# Altium integrated library Infineon_Power_MOSFET.IntLib: 1448 symbols (part 46 of 47)
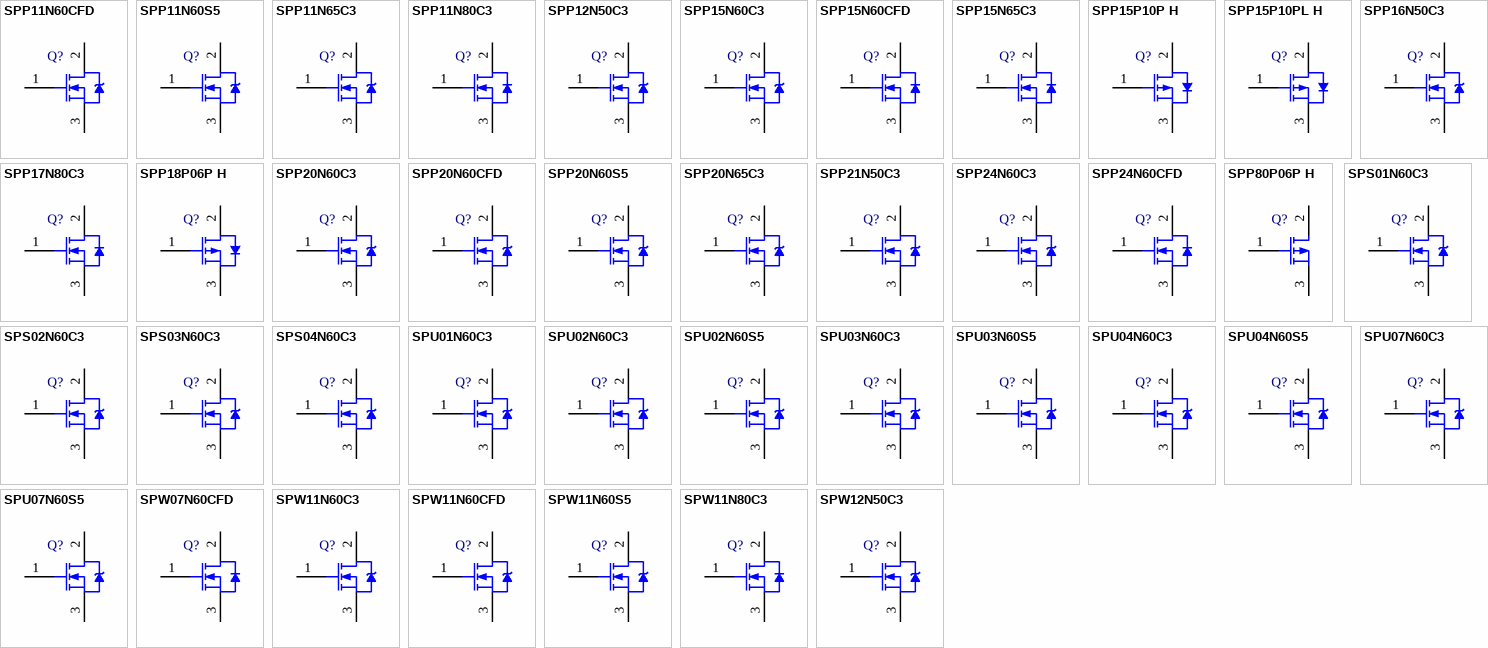
[diagram p82: symbols SPP11N60CFD to SPW12N50C3]

## SPP20N60S5
designator Q?
N-Channel CoolMOS Power-Transistor, 600 V VDS, 20 A ID, -55 to 150 degC, PG-TO220-3-1, Tube, Green; Manufacturer: Infineon; PartNumber: SPP20N60S5; Green: TRUE; ID (max): 20 A; IDpuls (max): 40 A; Polarity: N; Ptot (max): 208 W; QG: 79 nC; RDS (on) (max): 190 mOhm; Rth: 0.6 K/W; RthJA (max): 62 K/W; VDS (max): 600 V; VGS(th) (max): 5.5 V; VGS(th) (min): 3.5 V; DatasheetVersion: Rev. 2.8; PackageVersion: Jul-12; PackageReference: PG-TO220-3-1; PackageDescription: 3-Pin Plastic (Green) Transistor Single Outline Package, 10 x 9.25 mm Body, 2.54 mm Pitch; Supplier 1: Mouser; Supplier Part Number 1: 726-SPP20N60S5; Supplier 2: Newark; Supplier Part Number 2: 98K0731; Supplier 3: Farnell; Supplier Part Number 3: 1056552; Supplier 4: Digi-Key; Supplier Part Number 4: SPP20N60S5IN-ND; Halogen-free: TRUE; Packing: Tube; RthJC (max): 0.6 K/W; Technology: CoolMOS S5; Mounting Technology: Through Hole; ComponentLink1Description: Manufacturer URL; ComponentLink1URL: http://www.infineon.com/; ComponentLink2Description: Datasheet; ComponentLink2URL: http://www.infineon.com/dgdl/SPP20N60S5_Rev.2.8.pdf?folderId=db3a3043163797a6011638933eda014b&fileId=db3a30432313ff5e01237f9a14552fd9; ComponentLink3Description: Package Specification; ComponentLink3URL: http://www.infineon.com/dgdl/BTS117_DS_14.pdf?folderId=db3a30431400ef68011421b54e2e0564&fileId=db3a30433a747525013abff8302d549c&location=en.Products.Automotive_ICs.Smart_High-_and_Low-Side_Switches.HITFET___TEMPFET__-_Smart_Low-Side_Switches.DATASHEET.BTS117_DS_14.pdf
footprint INF-PG-TO220-3-1 (FM, 3-Leads, Body 10x4.4mm, Pitch 2.54mm)
pins: 1 GATE, 2 DRAIN, 3 SOURCE

## SPP20N65C3
designator Q?
N-Channel CoolMOS Power-Transistor, 650 V VDS, 20.7 A ID, -55 to150 degC, PG-TO220-3-1, Tube, Green; Manufacturer: Infineon; PartNumber: SPP20N65C3; Green: TRUE; ID (max): 20.7 A; IDpuls (max): 62.1 A; Mode: Enhancement; Polarity: N; Ptot (max): 208 W; QG: 87 nC; RDS (on) (max): 200 mOhm; Rth: 0.6 K/W; RthJA (max): 62 K/W; VDS (max): 650 V; VGS(th) (max): 3.9 V; VGS(th) (min): 2.1 V; DatasheetVersion: Rev. 3.1; PackageVersion: Jul-12; PackageReference: PG-TO220-3-1; PackageDescription: 3-Pin Plastic (Green) Transistor Single Outline Package, 10 x 9.25 mm Body, 2.54 mm Pitch; Supplier 1: Mouser; Supplier Part Number 1: 726-SPP20N65C3; Supplier 2: Digi-Key; Supplier Part Number 2: SPP20N65C3IN-ND; Packing: Tube; RthJC (max): 0.6 K/W; Technology: CoolMOS C3; Mounting Technology: Through Hole; ComponentLink1Description: Manufacturer URL; ComponentLink1URL: http://www.infineon.com/; ComponentLink2Description: Datasheet; ComponentLink2URL: http://www.infineon.com/dgdl/SPP_A_I20N65C3_Rev.3.1.pdf?folderId=db3a304412b407950112b408e8c90004&fileId=db3a304412b407950112b42ea4314a07; ComponentLink3Description: Package Specification; ComponentLink3URL: http://www.infineon.com/dgdl/BTS117_DS_14.pdf?folderId=db3a30431400ef68011421b54e2e0564&fileId=db3a30433a747525013abff8302d549c&location=en.Products.Automotive_ICs.Smart_High-_and_Low-Side_Switches.HITFET___TEMPFET__-_Smart_Low-Side_Switches.DATASHEET.BTS117_DS_14.pdf
footprint INF-PG-TO220-3-1 (FM, 3-Leads, Body 10x4.4mm, Pitch 2.54mm)
pins: 1 GATE, 2 DRAIN, 3 SOURCE

## SPP21N50C3
designator Q?
N-Channel CoolMOS Power-Transistor, 500 V VDS, 21 A ID, -55 to 150 degC, PG-TO220-3-1, Tube, Green; Manufacturer: Infineon; PartNumber: SPP21N50C3; Green: TRUE; ID (max): 21 A; IDpuls (max): 63 A; Polarity: N; Ptot (max): 208 W; QG: 95 nC; RDS (on) (max): 190 mOhm; Rth: 0.6 K/W; RthJA (max): 62 K/W; VDS (max): 500 V; VGS(th) (max): 3.9 V; VGS(th) (min): 2.1 V; DatasheetVersion: Rev. 3.2; PackageVersion: Jul-12; PackageReference: PG-TO220-3-1; PackageDescription: 3-Pin Plastic (Green) Transistor Single Outline Package, 10 x 9.25 mm Body, 2.54 mm Pitch; Supplier 1: Mouser; Supplier Part Number 1: 726-SPP21N50C3; Supplier 2: Newark; Supplier Part Number 2: 98K0733; Supplier 3: Digi-Key; Supplier Part Number 3: SPP21N50C3IN-ND; Packing: Tube; RthJC (max): 0.6 K/W; Technology: CoolMOS C3; Mounting Technology: Through Hole; ComponentLink1Description: Manufacturer URL; ComponentLink1URL: http://www.infineon.com/; ComponentLink2Description: Datasheet; ComponentLink2URL: http://www.infineon.com/dgdl/SPP_I_A21N50C3_Rev%5B1%5D.3.2%2Bnew.pdf?folderId=db3a304412b407950112b408e8c90004&fileId=db3a304412b407950112b42cf25f47d8; ComponentLink3Description: Package Specification; ComponentLink3URL: http://www.infineon.com/dgdl/BTS117_DS_14.pdf?folderId=db3a30431400ef68011421b54e2e0564&fileId=db3a30433a747525013abff8302d549c&location=en.Products.Automotive_ICs.Smart_High-_and_Low-Side_Switches.HITFET___TEMPFET__-_Smart_Low-Side_Switches.DATASHEET.BTS117_DS_14.pdf
footprint INF-PG-TO220-3-1 (FM, 3-Leads, Body 10x4.4mm, Pitch 2.54mm)
pins: 1 GATE, 2 DRAIN, 3 SOURCE

## SPP24N60C3
designator Q?
N-Channel CoolMOS Power-Transistor, 600 V VDS, 24.3 A ID, -55 to 150 degC, PG-TO220-3-1, Tube, Green; Manufacturer: Infineon; PartNumber: SPP24N60C3; Green: TRUE; ID (max): 24.3 A; IDpuls (max): 72.9 A; Polarity: N; Ptot (max): 240 W; QG: 104.9 nC; RDS (on) (max): 160 mOhm; Rth: 0.52 K/W; RthJA (max): 62 K/W; VDS (max): 600 V; VGS(th) (max): 3.9 V; VGS(th) (min): 2.1 V; DatasheetVersion: Rev. 2.5; PackageVersion: Jul-12; PackageReference: PG-TO220-3-1; PackageDescription: 3-Pin Plastic (Green) Transistor Single Outline Package, 10 x 9.25 mm Body, 2.54 mm Pitch; Supplier 1: Mouser; Supplier Part Number 1: 726-SPP24N60C3; Supplier 2: Digi-Key; Supplier Part Number 2: SPP24N60C3IN-ND; Packing: Tube; RthJC (max): 0.52 K/W; Technology: CoolMOS C3; Mounting Technology: Through Hole; ComponentLink1Description: Manufacturer URL; ComponentLink1URL: http://www.infineon.com/; ComponentLink2Description: Datasheet; ComponentLink2URL: http://www.infineon.com/dgdl/SPP24N60C3_Rev.2.5.pdf?folderId=db3a304412b407950112b408e8c90004&fileId=db3a304412b407950112b42e323b4975; ComponentLink3Description: Package Specification; ComponentLink3URL: http://www.infineon.com/dgdl/BTS117_DS_14.pdf?folderId=db3a30431400ef68011421b54e2e0564&fileId=db3a30433a747525013abff8302d549c&location=en.Products.Automotive_ICs.Smart_High-_and_Low-Side_Switches.HITFET___TEMPFET__-_Smart_Low-Side_Switches.DATASHEET.BTS117_DS_14.pdf
footprint INF-PG-TO220-3-1 (FM, 3-Leads, Body 10x4.4mm, Pitch 2.54mm)
pins: 1 GATE, 2 DRAIN, 3 SOURCE

## SPP24N60CFD
designator Q?
N-Channel CoolMOS Power-Transistor, 600 V VDS, 21.7 A ID, -55 to 150 degC, PG-TO220-3-1, Tube, Green; Manufacturer: Infineon; PartNumber: SPP24N60CFD; Green: TRUE; ID (max): 21.7 A; IDpuls (max): 55 A; Polarity: N; Ptot (max): 240 W; QG: 110 nC; RDS (on) (max): 185 mOhm; Rth: 0.52 K/W; RthJA (max): 62 K/W; VDS (max): 600 V; VGS(th) (max): 5 V; VGS(th) (min): 3 V; DatasheetVersion: Rev. 1.3; PackageVersion: Jul-12; PackageReference: PG-TO220-3-1; PackageDescription: 3-Pin Plastic (Green) Transistor Single Outline Package, 10 x 9.25 mm Body, 2.54 mm Pitch; Supplier 1: Mouser; Supplier Part Number 1: 726-SPP24N60CFD; Supplier 2: Digi-Key; Supplier Part Number 2: SPP24N60CFD-ND; Packing: Tube; RthJC (max): 0.52 K/W; Technology: CoolMOS CFD; Mounting Technology: Through Hole; ComponentLink1Description: Manufacturer URL; ComponentLink1URL: http://www.infineon.com/; ComponentLink2Description: Datasheet; ComponentLink2URL: http://www.infineon.com/dgdl/SPP24N60CFD_rev1.3.pdf?folderId=db3a304412b407950112b408e8c90004&fileId=db3a304412b407950112b42e904e49ef; ComponentLink3Description: Package Specification; ComponentLink3URL: http://www.infineon.com/dgdl/BTS117_DS_14.pdf?folderId=db3a30431400ef68011421b54e2e0564&fileId=db3a30433a747525013abff8302d549c&location=en.Products.Automotive_ICs.Smart_High-_and_Low-Side_Switches.HITFET___TEMPFET__-_Smart_Low-Side_Switches.DATASHEET.BTS117_DS_14.pdf
footprint INF-PG-TO220-3-1 (FM, 3-Leads, Body 10x4.4mm, Pitch 2.54mm)
pins: 1 GATE, 2 DRAIN, 3 SOURCE

## SPP80P06P H
designator Q?
P-Channel SIPMOS Power-Transistor, -60 V VDS, -80 A ID, -55 to 175 degC, PG-TO220-3-1, Tube, Green; Manufacturer: Infineon; PartNumber: SPP80P06P H; Green: TRUE; ID (max): -80 A; IDpuls (max): -320 A; Pto t (max): 340 W; QG: 115 nC; RDS (on) (max): 23 mOhm; Rth: 0.4 K/W; VDS (max): -60 V; VGS(th) (max): -4 V; VGS(th) (min): -2.1 V; DatasheetVersion: Rev. 1.5; PackageVersion: Rev. 05, 08/2007; PackageReference: PG-TO220-3-1; PackageDescription: 3-Pin Plastic (Green) Transistor Single Outline Package, 10.03 x 8.98 mm Body, 2.54 mm Pitch; Supplier 1: Mouser; Supplier Part Number 1: 726-SPP80P06PH; Supplier 2: Newark; Supplier Part Number 2: 79X1966; Supplier 3: Farnell; Supplier Part Number 3: 2432734; Supplier 4: Digi-Key; Supplier Part Number 4: SPP80P06P H-ND; Halogen-free: TRUE; Packing: Tube; RthJC (max): 0.4 K/W; Mounting Technology: Through Hole; ComponentLink1Description: Manufacturer URL; ComponentLink1URL: http://www.infineon.com/; ComponentLink2Description: Datasheet; ComponentLink2URL: http://www.infineon.com/dgdl/SPP80P06P+H_Rev1.5.pdf?folderId=db3a3043156fd5730115d6a107c41454&fileId=db3a304325afd6e001264bbdf4a70ca7; ComponentLink3Description: Package Specification; ComponentLink3URL: http://www.infineon.com/dgdl/IPP028N08N3_Rev1%5B1%5D.0.pdf?folderId=db3a304313b8b5a60113cee8763b02d7&fileId=db3a30432313ff5e0123a3c08e7326b5
footprint INF-PG-TO220-3-1_A_V (FM, 3-Leads, Body 10.03x8.98mm, Pitch 2.54mm)
pins: 1 G, 2 D, 3 S

## SPS01N60C3
designator Q?
N-Channel CoolMOS Power-Transistor, 600 V VDS, 0.8 A ID, -55 to 150 degC, PG-TO251-3-11, Tube, Green; Manufacturer: Infineon; PartNumber: SPS01N60C3; Green: TRUE; ID (max): 0.8 A; IDpuls (max): 1.6 A; Polarity: N; Ptot (max): 11 W; QG: 3.9 nC; RDS (on) (max): 6,000 mOhm; Rth: 11 K/W; RthJA (max): 75 K/W; VDS (max): 600 V; VGS(th) (max): 3.9 V; VGS(th) (min): 2.1 V; DatasheetVersion: Rev. 2.1; PackageVersion: Rev. 03, 01/2008; PackageReference: PG-TO251-3-11; PackageDescription: 3-Pin Plastic (Green) Transistor Single Outline Package, 6.54 x 6.1 mm Body, 2.29 mm Pitch; Supplier 1: Mouser; Supplier Part Number 1: 726-SPS01N60C3; Supplier 2: Newark; Supplier Part Number 2: 33P8223; Supplier 3: Farnell; Supplier Part Number 3: 1664126; Supplier 4: Digi-Key; Supplier Part Number 4: SPS01N60C3-ND; Packing: Tube; RthJC (max): 11 K/W; Technology: CoolMOS C3; Mounting Technology: Through Hole; ComponentLink1Description: Manufacturer URL; ComponentLink1URL: http://www.infineon.com/; ComponentLink2Description: Datasheet; ComponentLink2URL: http://www.infineon.com/dgdl/SPS01N60C3_Rev.2.1.pdf?folderId=db3a304412b407950112b408e8c90004&fileId=db3a304412b407950112b42e0a854941; ComponentLink3Description: Package Specification; ComponentLink3URL: http://www.infineon.com/dgdl/IPS50R520CP_rev2.1.pdf?folderId=db3a3043163797a6011637d4bae7003b&fileId=db3a30432b16d655012b1a87faf22d80
footprint INF-PG-TO251-3-11 (FM, 3-Leads, Body 6.54x2.285mm, Pitch 2.29mm)
pins: 1 GATE, 2 DRAIN, 3 SOURCE

## SPS02N60C3
designator Q?
N-Channel CoolMOS Power-Transistor, 600 V VDS, 1.8 A ID, -55 to 150 degC, PG-TO251-3-11, Tube, Green; Manufacturer: Infineon; PartNumber: SPS02N60C3; Green: TRUE; ID (max): 1.8 A; IDpuls (max): 5.4 A; Polarity: N; Ptot (max): 25 W; QG: 9.5 nC; RDS (on) (max): 3,000 mOhm; Rth: 5 K/W; RthJA (max): 75 K/W; VDS (max): 600 V; VGS(th) (max): 3.9 V; VGS(th) (min): 2.1 V; DatasheetVersion: Rev. 2.2; PackageVersion: Rev. 03, 01/2008; PackageReference: PG-TO251-3-11; PackageDescription: 3-Pin Plastic (Green) Transistor Single Outline Package, 6.54 x 6.1 mm Body, 2.29 mm Pitch; Supplier 1: Mouser; Supplier Part Number 1: 726-SPS02N60C3; Supplier 2: Newark; Supplier Part Number 2: 33P8224; Supplier 3: Farnell; Supplier Part Number 3: 1664127; Supplier 4: Digi-Key; Supplier Part Number 4: SPS02N60C3-ND; Packing: Tube; RthJC (max): 5 K/W; Technology: CoolMOS C3; Mounting Technology: Through Hole; ComponentLink1Description: Manufacturer URL; ComponentLink1URL: http://www.infineon.com/; ComponentLink2Description: Datasheet; ComponentLink2URL: http://www.infineon.com/dgdl/SPS02N60C3_Rev+2+2.pdf?folderId=db3a304412b407950112b408e8c90004&fileId=db3a304412b407950112b42e625749b7; ComponentLink3Description: Package Specification; ComponentLink3URL: http://www.infineon.com/dgdl/IPS50R520CP_rev2.1.pdf?folderId=db3a3043163797a6011637d4bae7003b&fileId=db3a30432b16d655012b1a87faf22d80
footprint INF-PG-TO251-3-11 (FM, 3-Leads, Body 6.54x2.285mm, Pitch 2.29mm)
pins: 1 GATE, 2 DRAIN, 3 SOURCE

## SPS03N60C3
designator Q?
N-Channel CoolMOS Power-Transistor, 600 V VDS, 3.2 A ID, -55 to 150 degC, PG-TO251-3-11, Tube, Green; Manufacturer: Infineon; PartNumber: SPS03N60C3; Green: TRUE; ID (max): 3.2 A; IDpuls (max): 9.6 A; Polarity: N; Ptot (max): 38 W; QG: 13 nC; RDS (on) (max): 1,400 mOhm; Rth: 3.3 K/W; RthJA (max): 75 K/W; VDS (max): 600 V; VGS(th) (max): 3.9 V; VGS(th) (min): 2.1 V; DatasheetVersion: Rev. 2.1; PackageVersion: Rev. 03, 01/2008; PackageReference: PG-TO251-3-11; PackageDescription: 3-Pin Plastic (Green) Transistor Single Outline Package, 6.54 x 6.1 mm Body, 2.29 mm Pitch; Supplier 1: Mouser; Supplier Part Number 1: 726-SPS03N60C3; Supplier 2: Farnell; Supplier Part Number 2: 1664129; Supplier 3: Digi-Key; Supplier Part Number 3: SPS03N60C3-ND; Packing: Tube; RthJC (max): 3.3 K/W; Technology: CoolMOS C3; Mounting Technology: Through Hole; ComponentLink1Description: Manufacturer URL; ComponentLink1URL: http://www.infineon.com/; ComponentLink2Description: Datasheet; ComponentLink2URL: http://www.infineon.com/dgdl/SPS03N60C3_Rev+2+1.pdf?folderId=db3a304412b407950112b408e8c90004&fileId=db3a304412b407950112b42e661f49bb; ComponentLink3Description: Package Specification; ComponentLink3URL: http://www.infineon.com/dgdl/IPS50R520CP_rev2.1.pdf?folderId=db3a3043163797a6011637d4bae7003b&fileId=db3a30432b16d655012b1a87faf22d80
footprint INF-PG-TO251-3-11 (FM, 3-Leads, Body 6.54x2.285mm, Pitch 2.29mm)
pins: 1 GATE, 2 DRAIN, 3 SOURCE

## SPS04N60C3
designator Q?
N-Channel CoolMOS Power-Transistor, 600 V VDS, 4.5 A ID, -55 to 150 degC, PG-TO251-3-11, Tube, Green; Manufacturer: Infineon; PartNumber: SPS04N60C3; Green: TRUE; ID (max): 4.5 A; IDpuls (max): 13.5 A; Polarity: N; Ptot (max): 50 W; QG: 19 nC; RDS (on) (max): 950 mOhm; Rth: 2.5 K/W; RthJA (max): 75 K/W; VDS (max): 600 V; VGS(th) (max): 3.9 V; VGS(th) (min): 2.1 V; DatasheetVersion: Rev. 2.1; PackageVersion: Rev. 03, 01/2008; PackageReference: PG-TO251-3-11; PackageDescription: 3-Pin Plastic (Green) Transistor Single Outline Package, 6.54 x 6.1 mm Body, 2.29 mm Pitch; Supplier 1: Mouser; Supplier Part Number 1: 726-SPS04N60C3; Supplier 2: Newark; Supplier Part Number 2: 33P8226; Supplier 3: Farnell; Supplier Part Number 3: 1664131; Supplier 4: Digi-Key; Supplier Part Number 4: SPS04N60C3-ND; Packing: Tube; RthJC (max): 2.5 K/W; Technology: CoolMOS C3; Mounting Technology: Through Hole; ComponentLink1Description: Manufacturer URL; ComponentLink1URL: http://www.infineon.com/; ComponentLink2Description: Datasheet; ComponentLink2URL: http://www.infineon.com/dgdl/SPS03N60C3_Rev+2+1.pdf?folderId=db3a304412b407950112b408e8c90004&fileId=db3a304412b407950112b42e661f49bb; ComponentLink3Description: Package Specification; ComponentLink3URL: http://www.infineon.com/dgdl/IPS50R520CP_rev2.1.pdf?folderId=db3a3043163797a6011637d4bae7003b&fileId=db3a30432b16d655012b1a87faf22d80
footprint INF-PG-TO251-3-11 (FM, 3-Leads, Body 6.54x2.285mm, Pitch 2.29mm)
pins: 1 GATE, 2 DRAIN, 3 SOURCE

## SPU01N60C3
designator Q?
N-Channel CoolMOS Power-Transistor, 600 V VDS, 0.8 A ID, -55 to 150 degC, PG-TO-251-3-21, Tube, Green; Manufacturer: Infineon; PartNumber: SPU01N60C3; Green: TRUE; ID (max): 0.8 A; IDpuls (max): 1.6 A; Polarity: N; Ptot (max): 11 W; QG: 3.9 nC; RDS (on) (max): 6,000 mOhm; Rth: 11 K/W; RthJA (max): 75 K/W; VDS (max): 600 V; VGS(th) (max): 3.9 V; VGS(th) (min): 2.1 V; DatasheetVersion: Rev. 2.5; PackageVersion: Rev. 03, 10/2007; PackageReference: PG-TO-251-3-21; PackageDescription: 3-Pin Plastic (Green) Transistor Single Outline Package, 6.604 x 6.096 mm Body, 2.286 mm Pitch; Supplier 1: Mouser; Supplier Part Number 1: 726-SPU01N60C3; Supplier 2: Digi-Key; Supplier Part Number 2: SPU01N60C3IN-ND; Packing: Tube; RthJC (max): 11 K/W; Technology: CoolMOS C3; Mounting Technology: Through Hole; ComponentLink1Description: Manufacturer URL; ComponentLink1URL: http://www.infineon.com/; ComponentLink2Description: Datasheet; ComponentLink2URL: http://www.infineon.com/dgdl/SPD_U01N60C3_Rev.2.5.pdf?folderId=db3a304412b407950112b408e8c90004&fileId=db3a304412b407950112b42e18974951; ComponentLink3Description: Package Specification; ComponentLink3URL: http://www.infineon.com/dgdl/SPD_U01N60C3_Rev.2.5.pdf?folderId=db3a304412b407950112b408e8c90004&fileId=db3a304412b407950112b42e18974951
footprint INF-PG-TO-251-3-21_A (FM, 3-Leads, Body 6.54x2.285mm, Pitch 2.29mm)
pins: 1 GATE, 2 DRAIN, 3 SOURCE

## SPU02N60C3
designator Q?
N-Channel CoolMOS Power-Transistor, 600 V VDS, 1.8 A ID, -55 to 150 degC, PG-TO-251-3-21, Tube, Green; Manufacturer: Infineon; PartNumber: SPU02N60C3; Green: TRUE; ID (max): 1.8 A; IDpuls (max): 5.4 A; Polarity: N; Ptot (max): 25 W; QG: 9.5 nC; RDS (on) (max): 3,000 mOhm; Rth: 5 K/W; RthJA (max): 75 K/W; VDS (max): 600 V; VGS(th) (max): 3.9 V; VGS(th) (min): 2.1 V; DatasheetVersion: Rev. 2.5; PackageVersion: Rev. 03, 10/2007; PackageReference: PG-TO-251-3-21; PackageDescription: 3-Pin Plastic (Green) Transistor Single Outline Package, 6.604 x 6.096 mm Body, 2.286 mm Pitch; Supplier 1: Mouser; Supplier Part Number 1: 726-SPU02N60C3; Supplier 2: Farnell; Supplier Part Number 2: 1664132; Supplier 3: Digi-Key; Supplier Part Number 3: SPU02N60C3-ND; Packing: Tube; RthJC (max): 5 K/W; Technology: CoolMOS C3; Mounting Technology: Through Hole; ComponentLink1Description: Manufacturer URL; ComponentLink1URL: http://www.infineon.com/; ComponentLink2Description: Datasheet; ComponentLink2URL: http://www.infineon.com/dgdl/SPD_U02N60C3_Rev.2.5.pdf?folderId=db3a304412b407950112b408e8c90004&fileId=db3a304412b407950112b42d79214883; ComponentLink3Description: Package Specification; ComponentLink3URL: http://www.infineon.com/dgdl/SPD_U01N60C3_Rev.2.5.pdf?folderId=db3a304412b407950112b408e8c90004&fileId=db3a304412b407950112b42e18974951
footprint INF-PG-TO-251-3-21_A (FM, 3-Leads, Body 6.54x2.285mm, Pitch 2.29mm)
pins: 1 GATE, 2 DRAIN, 3 SOURCE

## SPU02N60S5
designator Q?
N-Channel CoolMOS Power-Transistor, 600 V VDS, 1.8 A ID, -55 to 150 degC, PG-TO-251-3-21, Tube, Green; Manufacturer: Infineon; PartNumber: SPU02N60S5; Green: TRUE; ID (max): 1.8 A; IDpuls (max): 3.2 A; Polarity: N; Ptot (max): 25 W; QG: 7.3 nC; RDS (on) (max): 3,000 mOhm; Rth: 5 K/W; RthJA (max): 75 K/W; VDS (max): 600 V; VGS(th) (max): 5.5 V; VGS(th) (min): 3.5 V; DatasheetVersion: Rev. 2.5; PackageVersion: Rev. 03, 10/2007; PackageReference: PG-TO-251-3-21; PackageDescription: 3-Pin Plastic (Green) Transistor Single Outline Package, 6.604 x 6.096 mm Body, 2.286 mm Pitch; Supplier 1: Mouser; Supplier Part Number 1: 726-SPU02N60S5; Supplier 2: Digi-Key; Supplier Part Number 2: SPU02N60S5IN-ND; Packing: Tube; RthJC (max): 5 K/W; Technology: CoolMOS S5; Mounting Technology: Through Hole; ComponentLink1Description: Manufacturer URL; ComponentLink1URL: http://www.infineon.com/; ComponentLink2Description: Datasheet; ComponentLink2URL: http://www.infineon.com/dgdl/SPD_U02N60S5_Rev.2.5.pdf?folderId=db3a304412b407950112b408e8c90004&fileId=db3a304412b407950112b42c91374727; ComponentLink3Description: Package Specification; ComponentLink3URL: http://www.infineon.com/dgdl/SPD_U01N60C3_Rev.2.5.pdf?folderId=db3a304412b407950112b408e8c90004&fileId=db3a304412b407950112b42e18974951
footprint INF-PG-TO-251-3-21_A (FM, 3-Leads, Body 6.54x2.285mm, Pitch 2.29mm)
pins: 1 GATE, 2 DRAIN, 3 SOURCE

## SPU03N60C3
designator Q?
N-Channel CoolMOS Power-Transistor, 600 V VDS, 3.2 A ID, -55 to 150 degC, PG-TO-251-3-21, Tube, Green; Manufacturer: Infineon; PartNumber: SPU03N60C3; Green: TRUE; ID (max): 3.2 A; IDpuls (max): 9.6 A; Polarity: N; Ptot (max): 38 W; QG: 13 nC; RDS (on) (max): 1,400 mOhm; Rth: 3.3 K/W; RthJA (max): 75 K/W; VDS (max): 600 V; VGS(th) (max): 3.9 V; VGS(th) (min): 2.1 V; DatasheetVersion: Rev. 2.5; PackageVersion: Rev. 03, 10/2007; PackageReference: PG-TO-251-3-21; PackageDescription: 3-Pin Plastic (Green) Transistor Single Outline Package, 6.604 x 6.096 mm Body, 2.286 mm Pitch; Supplier 1: Mouser; Supplier Part Number 1: 726-SPU03N60C3; Supplier 2: Digi-Key; Supplier Part Number 2: SPU03N60C3-ND; Packing: Tube; RthJC (max): 3.3 K/W; Technology: CoolMOS C3; Mounting Technology: Through Hole; ComponentLink1Description: Manufacturer URL; ComponentLink1URL: http://www.infineon.com/; ComponentLink2Description: Datasheet; ComponentLink2URL: http://www.infineon.com/dgdl/SPD_U03N60C3_Rev.2.5.pdf?folderId=db3a3043156fd5730115c736bcc70ff2&fileId=db3a3043191a246301192907f3b27f4b; ComponentLink3Description: Package Specification; ComponentLink3URL: http://www.infineon.com/dgdl/SPD_U01N60C3_Rev.2.5.pdf?folderId=db3a304412b407950112b408e8c90004&fileId=db3a304412b407950112b42e18974951
footprint INF-PG-TO-251-3-21_A (FM, 3-Leads, Body 6.54x2.285mm, Pitch 2.29mm)
pins: 1 GATE, 2 DRAIN, 3 SOURCE

## SPU03N60S5
designator Q?
N-Channel CoolMOS Power-Transistor, 600 V VDS, 3.2 A ID, -55 to 150 degC, PG-TO-251-3-21, Tube, Green; Manufacturer: Infineon; PartNumber: SPU03N60S5; Green: TRUE; ID (max): 3.2 A; IDpuls (max): 5.7 A; Polarity: N; Ptot (max): 38 W; QG: 12.4 nC; RDS (on) (max): 1,400 mOhm; Rth: 3.3 K/W; RthJA (max): 75 K/W; VDS (max): 600 V; VGS(th) (max): 5.5 V; VGS(th) (min): 3.5 V; DatasheetVersion: Rev. 2.5; PackageVersion: Rev. 03, 10/2007; PackageReference: PG-TO-251-3-21; PackageDescription: 3-Pin Plastic (Green) Transistor Single Outline Package, 6.604 x 6.096 mm Body, 2.286 mm Pitch; Supplier 1: Mouser; Supplier Part Number 1: 726-SPU03N60S5; Supplier 2: Digi-Key; Supplier Part Number 2: SPU03N60S5IN-ND; Packing: Tube; RthJC (max): 3.3 K/W; Technology: CoolMOS S5; Mounting Technology: Through Hole; ComponentLink1Description: Manufacturer URL; ComponentLink1URL: http://www.infineon.com/; ComponentLink2Description: Datasheet; ComponentLink2URL: http://www.infineon.com/dgdl/SPD_U03N60S5_Rev.2.5.pdf?folderId=db3a304412b407950112b408e8c90004&fileId=db3a304412b407950112b42c8ab0471f; ComponentLink3Description: Package Specification; ComponentLink3URL: http://www.infineon.com/dgdl/SPD_U01N60C3_Rev.2.5.pdf?folderId=db3a304412b407950112b408e8c90004&fileId=db3a304412b407950112b42e18974951
footprint INF-PG-TO-251-3-21_A (FM, 3-Leads, Body 6.54x2.285mm, Pitch 2.29mm)
pins: 1 GATE, 2 DRAIN, 3 SOURCE

## SPU04N60C3
designator Q?
N-Channel CoolMOS Power-Transistor, 600 V VDS, 4.5 A ID, -55 to 150 degC, PG-TO-251-3-21, Tube, Green; Manufacturer: Infineon; PartNumber: SPU04N60C3; Green: TRUE; ID (max): 4.5 A; IDpuls (max): 13.5 A; Polarity: N; Ptot (max): 50 W; QG: 19 nC; RDS (on) (max): 950 mOhm; Rth: 2.5 K/W; RthJA (max): 75 K/W; VDS (max): 600 V; VGS(th) (max): 3.9 V; VGS(th) (min): 2.1 V; DatasheetVersion: Rev. 2.5; PackageVersion: Rev. 03, 10/2007; PackageReference: PG-TO-251-3-21; PackageDescription: 3-Pin Plastic (Green) Transistor Single Outline Package, 6.604 x 6.096 mm Body, 2.286 mm Pitch; Supplier 1: Mouser; Supplier Part Number 1: 726-SPU04N60C3; Supplier 2: Digi-Key; Supplier Part Number 2: SPU04N60C3IN-ND; Packing: Tube; RthJC (max): 2.5 K/W; Technology: CoolMOS C3; Mounting Technology: Through Hole; ComponentLink1Description: Manufacturer URL; ComponentLink1URL: http://www.infineon.com/; ComponentLink2Description: Datasheet; ComponentLink2URL: http://www.infineon.com/dgdl/SPD_U04N60C3_Rev+2.5._pdf.pdf?folderId=db3a3043156fd5730115c736bcc70ff2&fileId=db3a3043191a246301192d0ba57a2a33; ComponentLink3Description: Package Specification; ComponentLink3URL: http://www.infineon.com/dgdl/SPD_U01N60C3_Rev.2.5.pdf?folderId=db3a304412b407950112b408e8c90004&fileId=db3a304412b407950112b42e18974951
footprint INF-PG-TO-251-3-21_A (FM, 3-Leads, Body 6.54x2.285mm, Pitch 2.29mm)
pins: 1 GATE, 2 DRAIN, 3 SOURCE

## SPU04N60S5
designator Q?
Cool MOS Power Transistor, 600 V VDS, 4.5 A ID, PG-TO-251-3-21, Tube, Green; Manufacturer: Infineon; PartNumber: SPU04N60S5; Green: TRUE; ID (max): 4.5 A; Polarity: N; RDS (on) (max): 950 mOhm; VDS (max): 600 V; DatasheetVersion: Rev. 2.5; PackageVersion: Rev. 03, 10/2007; PackageReference: PG-TO-251-3-21; PackageDescription: 3-Pin Plastic (Green) Transistor Single Outline Package, 6.604 x 6.096 mm Body, 2.286 mm Pitch; Supplier 1: Digi-Key; Supplier Part Number 1: SPU04N60S5IN-ND; Halogen-free: FALSE; Packing: Tube; Mounting Technology: Through Hole; ComponentLink1Description: Manufacturer URL; ComponentLink1URL: http://www.infineon.com/; ComponentLink2Description: Datasheet; ComponentLink2URL: http://www.infineon.com/dgdl/SPD_U04N60S5_Rev.2.5.pdf?folderId=db3a304412b407950112b408e8c90004&fileId=db3a304412b407950112b42c9490472b; ComponentLink3Description: Package Specification; ComponentLink3URL: http://www.infineon.com/dgdl/SPD_U01N60C3_Rev.2.5.pdf?folderId=db3a304412b407950112b408e8c90004&fileId=db3a304412b407950112b42e18974951
footprint INF-PG-TO-251-3-21_A (FM, 3-Leads, Body 6.54x2.285mm, Pitch 2.29mm)
pins: 1 GATE, 2 DRAIN, 3 SOURCE

## SPU07N60C3
designator Q?
N-Channel CoolMOS Power-Transistor, 600 V VDS, 7.3 A ID, -55 to 150 degC, PG-TO-251-3-21, Tube, Green; Manufacturer: Infineon; PartNumber: SPU07N60C3; Green: TRUE; ID (max): 7.3 A; IDpuls (max): 21.9 A; Polarity: N; Ptot (max): 83 W; QG: 21 nC; RDS (on) (max): 600 mOhm; Rth: 1.5 K/W; RthJA (max): 75 K/W; VDS (max): 600 V; VGS(th) (max): 2.9 V; VGS(th) (min): 2.1 V; DatasheetVersion: Rev. 2.6; PackageVersion: Rev. 03, 10/2007; PackageReference: PG-TO-251-3-21; PackageDescription: 3-Pin Plastic (Green) Transistor Single Outline Package, 6.604 x 6.096 mm Body, 2.286 mm Pitch; Supplier 1: Mouser; Supplier Part Number 1: 726-SPU07N60C3; Supplier 2: Digi-Key; Supplier Part Number 2: SPU07N60C3IN-ND; Packing: Tube; RthJC (max): 1.5 K/W; Technology: CoolMOS C3; Mounting Technology: Through Hole; ComponentLink1Description: Manufacturer URL; ComponentLink1URL: http://www.infineon.com/; ComponentLink2Description: Datasheet; ComponentLink2URL: http://www.infineon.com/dgdl/SPD_U07N60C3_Rev.2.5.pdf?folderId=db3a3043156fd5730115c736bcc70ff2&fileId=db3a30431936bc4b0119377a807c3f77; ComponentLink3Description: Package Specification; ComponentLink3URL: http://www.infineon.com/dgdl/SPD_U01N60C3_Rev.2.5.pdf?folderId=db3a304412b407950112b408e8c90004&fileId=db3a304412b407950112b42e18974951
footprint INF-PG-TO-251-3-21_A (FM, 3-Leads, Body 6.54x2.285mm, Pitch 2.29mm)
pins: 1 GATE, 2 DRAIN, 3 SOURCE

## SPU07N60S5
designator Q?
N-Channel CoolMOS Power-Transistor, 600 V VDS, 7.3 A ID, -55 to 150 degC, PG-TO-251-3-21, Tube, Green; Manufacturer: Infineon; PartNumber: SPU07N60S5; Green: TRUE; ID (max): 7.3 A; IDpuls (max): 14.6 A; Polarity: N; Ptot (max): 83 W; QG: 27 nC; RDS (on) (max): 600 mOhm; Rth: 1.5 K/W; RthJA (max): 75 K/W; VDS (max): 600 V; VGS(th) (max): 5.5 V; VGS(th) (min): 3.5 V; DatasheetVersion: Rev. 2.5; PackageVersion: Rev. 03, 10/2007; PackageReference: PG-TO-251-3-21; PackageDescription: 3-Pin Plastic (Green) Transistor Single Outline Package, 6.604 x 6.096 mm Body, 2.286 mm Pitch; Supplier 1: Mouser; Supplier Part Number 1: 726-SPU07N60S5; Supplier 2: Digi-Key; Supplier Part Number 2: SPU07N60S5IN-ND; Packing: Tube; RthJC (max): 1.5 K/W; Technology: CoolMOS S5; Mounting Technology: Through Hole; ComponentLink1Description: Manufacturer URL; ComponentLink1URL: http://www.infineon.com/; ComponentLink2Description: Datasheet; ComponentLink2URL: http://www.infineon.com/dgdl/SPD_U07N60S5_Rev.2.5.pdf?folderId=db3a304412b407950112b408e8c90004&fileId=db3a304412b407950112b42c8df34723; ComponentLink3Description: Package Specification; ComponentLink3URL: http://www.infineon.com/dgdl/SPD_U01N60C3_Rev.2.5.pdf?folderId=db3a304412b407950112b408e8c90004&fileId=db3a304412b407950112b42e18974951
footprint INF-PG-TO-251-3-21_A (FM, 3-Leads, Body 6.54x2.285mm, Pitch 2.29mm)
pins: 1 GATE, 2 DRAIN, 3 SOURCE

## SPW07N60CFD
designator Q?
N-Channel CoolMOS Power-Transistor, 600 V VDS, 6.6 A ID, -55 to 150 degC, PG-TO247-3-44, Tube, Green; Manufacturer: Infineon; PartNumber: SPW07N60CFD; Green: TRUE; ID (max): 6.6 A; IDpuls (max): 17 A; Polarity: N; Ptot (max): 83 W; QG: 35 nC; RDS (on) (max): 700 mOhm; Rth: 1.5 K/W; RthJA (max): 62 K/W; VDS (max): 600 V; VGS(th) (max): 5 V; VGS(th) (min): 3 V; DatasheetVersion: Rev. 1.2; PackageVersion: Rev. 03; PackageReference: PG-TO247-3-44; PackageDescription: 3-Pin Plastic (Green) Transistor Single Outline Package, 15.94 x 20.95 mm Body, 5.44 mm Pitch; Supplier 1: Mouser; Supplier Part Number 1: 726-SPW07N60CFD; Supplier 2: Newark; Supplier Part Number 2: 33P8229; Supplier 3: Farnell; Supplier Part Number 3: 1664134; Supplier 4: Digi-Key; Supplier Part Number 4: SPW07N60CFD-ND; Halogen-free: available; Packing: Tube; RthJC (max): 1.5 K/W; Technology: CoolMOS CFD; Mounting Technology: Through Hole; ComponentLink1Description: Manufacturer URL; ComponentLink1URL: http://www.infineon.com/; ComponentLink2Description: Datasheet; ComponentLink2URL: http://www.infineon.com/dgdl/SPW07N60CFD_rev1%5B1%5D.2_PCN.pdf?folderId=db3a304412b407950112b408e8c90004&fileId=db3a304412b407950112b42e938c49f3; ComponentLink3Description: Package Specification; ComponentLink3URL: http://www.infineon.com/cms/packages/Leaded_and_through-hole/P-PG-TO247/P-PG-TO247-3-44.html?__locale=en
footprint INF-PG-TO247-3-44 (FM, 3-Leads, Body 5.02x15.94mm, Pitch 5.44mm)
pins: 1 GATE, 2 DRAIN, 3 SOURCE

## SPW11N60C3
designator Q?
N-Channel CoolMOS Power-Transistor, 600 V VDS, 11 A ID, -55 to 150 degC, PG-TO247-3-44, Tube, Green; Manufacturer: Infineon; PartNumber: SPW11N60C3; Green: TRUE; ID (max): 11 A; IDpuls (max): 33 A; Polarity: N; Ptot (max): 125 W; QG: 45 nC; RDS (on) (max): 380 mOhm; Rth: 1 K/W; RthJA (max): 62 K/W; VDS (max): 600 V; VGS(th) (max): 3.9 V; VGS(th) (min): 2.1 V; DatasheetVersion: Rev. 2.6; PackageVersion: Rev. 03; PackageReference: PG-TO247-3-44; PackageDescription: 3-Pin Plastic (Green) Transistor Single Outline Package, 15.94 x 20.95 mm Body, 5.44 mm Pitch; Supplier 1: Mouser; Supplier Part Number 1: 726-SPW11N60C3; Supplier 2: Digi-Key; Supplier Part Number 2: SPW11N60C3IN-ND; Halogen-free: available; Packing: Tube; RthJC (max): 1 K/W; Technology: CoolMOS C3; Mounting Technology: Through Hole; ComponentLink1Description: Manufacturer URL; ComponentLink1URL: http://www.infineon.com/; ComponentLink2Description: Datasheet; ComponentLink2URL: http://www.infineon.com/dgdl/SPW11N60C3_Rev%5B1%5D.2.6_PCN.pdf?folderId=db3a304412b407950112b408e8c90004&fileId=db3a304412b407950112b42d87b14893; ComponentLink3Description: Package Specification; ComponentLink3URL: http://www.infineon.com/cms/packages/Leaded_and_through-hole/P-PG-TO247/P-PG-TO247-3-44.html?__locale=en
footprint INF-PG-TO247-3-44 (FM, 3-Leads, Body 5.02x15.94mm, Pitch 5.44mm)
pins: 1 GATE, 2 DRAIN, 3 SOURCE

## SPW11N60CFD
designator Q?
N-Channel CoolMOS Power-Transistor, 600 V VDS, 11 A ID, -55 to 150 degC, PG-TO247-3-44, Tube, Green; Manufacturer: Infineon; PartNumber: SPW11N60CFD; Green: TRUE; ID (max): 11 A; IDpuls (max): 28 A; Polarity: N; Ptot (max): 125 W; QG: 48 nC; RDS (on) (max): 440 mOhm; Rth: 1 K/W; RthJA (max): 62 K/W; VDS (max): 600 V; VGS(th) (max): 5 V; VGS(th) (min): 3 V; DatasheetVersion: Rev. 2.0; PackageVersion: Rev. 03; PackageReference: PG-TO247-3-44; PackageDescription: 3-Pin Plastic (Green) Transistor Single Outline Package, 15.94 x 20.95 mm Body, 5.44 mm Pitch; Supplier 1: Mouser; Supplier Part Number 1: 726-SPW11N60CFD; Supplier 2: Digi-Key; Supplier Part Number 2: SPW11N60CFDIN-ND; Halogen-free: available; Packing: Tube; RthJC (max): 1 K/W; Technology: CoolMOS CFD; Mounting Technology: Through Hole; ComponentLink1Description: Manufacturer URL; ComponentLink1URL: http://www.infineon.com/; ComponentLink2Description: Datasheet; ComponentLink2URL: http://www.infineon.com/dgdl/SPW11N60CFD_Rev%5B1%5D.2.5_PCN.pdf?folderId=db3a304412b407950112b408e8c90004&fileId=db3a304412b407950112b42e5f1849b3; ComponentLink3Description: Package Specification; ComponentLink3URL: http://www.infineon.com/cms/packages/Leaded_and_through-hole/P-PG-TO247/P-PG-TO247-3-44.html?__locale=en
footprint INF-PG-TO247-3-44 (FM, 3-Leads, Body 5.02x15.94mm, Pitch 5.44mm)
pins: 1 GATE, 2 DRAIN, 3 SOURCE

## SPW11N60S5
designator Q?
N-Channel CoolMOS Power-Transistor, 600 V VDS, 11 A ID, -55 to 150 degC, PG-TO247-3-44, Tube, Green; Manufacturer: Infineon; PartNumber: SPW11N60S5; Green: TRUE; ID (max): 11 A; IDpuls (max): 22 A; Polarity: N; Ptot (max): 125 W; QG: 41.5 nC; RDS (on) (max): 380 mOhm; Rth: 1 K/W; RthJA (max): 62 K/W; VDS (max): 600 V; VGS(th) (max): 5.5 V; VGS(th) (min): 3.5 V; DatasheetVersion: Rev. 2.4; PackageVersion: Rev. 03; PackageReference: PG-TO247-3-44; PackageDescription: 3-Pin Plastic (Green) Transistor Single Outline Package, 15.94 x 20.95 mm Body, 5.44 mm Pitch; Supplier 1: Digi-Key; Supplier Part Number 1: SPW11N60S5IN-ND; Halogen-free: available; Packing: Tube; RthJC (max): 1 K/W; Technology: CoolMOS S5; Mounting Technology: Through Hole; ComponentLink1Description: Manufacturer URL; ComponentLink1URL: http://www.infineon.com/; ComponentLink2Description: Datasheet; ComponentLink2URL: http://www.infineon.com/dgdl/SPW11N60S5_Rev%5B1%5D.2.4_PCN.pdf?folderId=db3a304412b407950112b408e8c90004&fileId=db3a304412b407950112b42d68e0486f; ComponentLink3Description: Package Specification; ComponentLink3URL: http://www.infineon.com/cms/packages/Leaded_and_through-hole/P-PG-TO247/P-PG-TO247-3-44.html?__locale=en
footprint INF-PG-TO247-3-44 (FM, 3-Leads, Body 5.02x15.94mm, Pitch 5.44mm)
pins: 1 GATE, 2 DRAIN, 3 SOURCE

## SPW11N80C3
designator Q?
N-Channel CoolMOS Power-Transistor, 800 V VDS, 11 A ID, -55 to 150 degC, PG-TO247-3-21, Tube, Green; Manufacturer: Infineon; PartNumber: SPW11N80C3; Green: TRUE; ID (max): 11 A; IDpuls (max): 33 A; Mode: Enhancement; Polarity: N; Ptot (max): 156 W; QG: 64 nC; RDS (on) (max): 450 mOhm; Rth: 0.8 K/W; RthJA (max): 62 K/W; VDS (max): 800 V; VGS(th) (max): 3.9 V; VGS(th) (min): 2.1 V; DatasheetVersion: Rev. 2.91; PackageVersion: Oct-07; PackageReference: PG-TO247-3-21; PackageDescription: 3-Pin Plastic (Green) Transistor Single Outline Package, 15.87 x 20.96 mm Body, 5.44 mm Pitch; Supplier 1: Mouser; Supplier Part Number 1: 726-SPW11N80C3; Supplier 2: Farnell; Supplier Part Number 2: 1201592; Supplier 3: Digi-Key; Supplier Part Number 3: SPW11N80C3IN-ND; Halogen-free: available; Packing: Tube; RthJC (max): 0.8 K/W; Technology: CoolMOS C3; Mounting Technology: Through Hole; ComponentLink1Description: Manufacturer URL; ComponentLink1URL: http://www.infineon.com/; ComponentLink2Description: Datasheet; ComponentLink2URL: http://www.infineon.com/dgdl/SPW11N80C3_rev2.91.pdf?folderId=db3a304412b407950112b408e8c90004&fileId=db3a304412b407950112b42bf6e0463d; ComponentLink3Description: Package Specification; ComponentLink3URL: http://www.infineon.com/dgdl/DS_IK30N100T_1_1.pdf?folderId=db3a304412b407950112b408e8c90004&fileId=db3a304316f66ee80116f7b6e3920050&location=en.Products.IGBTs.IGBT_with_Anti-Parallel_Diode.TRENCHSTOP__IGBT_for_Hard_Switching.DATASHEET.DS_IK30N100T_1_1.pdf
footprint INF-PG-TO247-3-21 (FM, 3-Leads, Body 5.03x15.87mm, Pitch 5.44mm)
pins: 1 GATE, 2 DRAIN, 3 SOURCE

## SPW12N50C3
designator Q?
N-Channel CoolMOS Power-Transistor, 500 V VDS, 11.6 A ID, -55 to 150 degC, PG-TO247-3-44, Tube, Green; Manufacturer: Infineon; PartNumber: SPW12N50C3; Green: TRUE; ID (max): 11.6 A; IDpuls (max): 34.8 A; Polarity: N; Ptot (max): 125 W; QG: 49 nC; RDS (on) (max): 380 mOhm; Rth: 1 K/W; RthJA (max): 62 K/W; VDS (max): 500 V; VGS(th) (max): 3.9 V; VGS(th) (min): 2.1 V; DatasheetVersion: Rev. 2.5; PackageVersion: Rev. 03; PackageReference: PG-TO247-3-44; PackageDescription: 3-Pin Plastic (Green) Transistor Single Outline Package, 15.94 x 20.95 mm Body, 5.44 mm Pitch; Supplier 1: Mouser; Supplier Part Number 1: 726-SPW12N50C3; Supplier 2: Digi-Key; Supplier Part Number 2: SPW12N50C3IN-ND; Halogen-free: available; Packing: Tube; RthJC (max): 1 K/W; Technology: CoolMOS C3; Mounting Technology: Through Hole; ComponentLink1Description: Manufacturer URL; ComponentLink1URL: http://www.infineon.com/; ComponentLink2Description: Datasheet; ComponentLink2URL: http://www.infineon.com/dgdl/SPW12N50C3_Rev%5B1%5D.2.5_PCN.pdf?folderId=db3a304412b407950112b408e8c90004&fileId=db3a304412b407950112b42d1b5c480a; ComponentLink3Description: Package Specification; ComponentLink3URL: http://www.infineon.com/cms/packages/Leaded_and_through-hole/P-PG-TO247/P-PG-TO247-3-44.html?__locale=en
footprint INF-PG-TO247-3-44 (FM, 3-Leads, Body 5.02x15.94mm, Pitch 5.44mm)
pins: 1 GATE, 2 DRAIN, 3 SOURCE

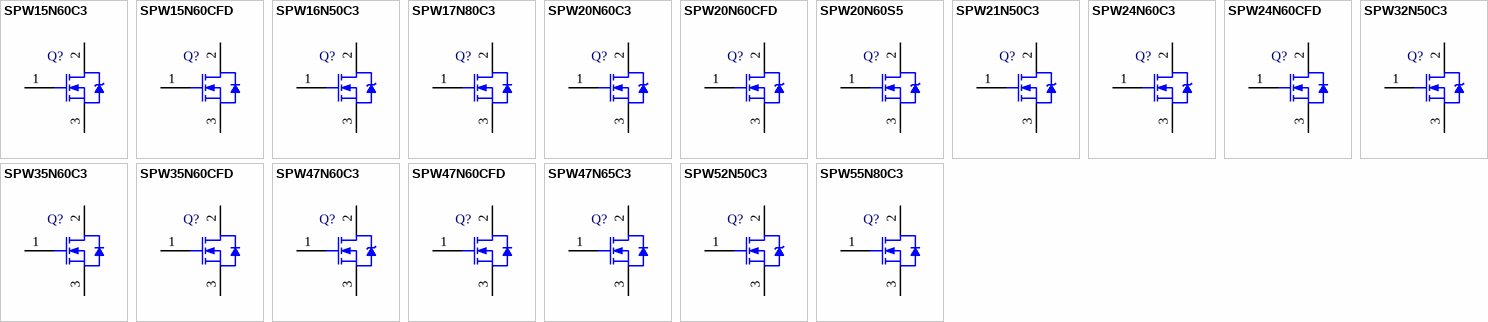
[diagram p37: symbols SPW15N60C3 to SPW55N80C3]

## SPW15N60C3
designator Q?
N-Channel CoolMOS Power-Transistor, 600 V VDS, 15 A ID, -55 to 150 degC, PG-TO247-3-44, Tube, Green; Manufacturer: Infineon; PartNumber: SPW15N60C3; Green: TRUE; ID (max): 15 A; IDpuls (max): 45 A; Polarity: N; Ptot (max): 156 W; QG: 63 nC; RDS (on) (max): 280 mOhm; Rth: 0.8 K/W; RthJA (max): 62 K/W; VDS (max): 600 V; VGS(th) (max): 3.9 V; VGS(th) (min): 2.1 V; DatasheetVersion: Rev. 2.5; PackageVersion: Rev. 03; PackageReference: PG-TO247-3-44; PackageDescription: 3-Pin Plastic (Green) Transistor Single Outline Package, 15.94 x 20.95 mm Body, 5.44 mm Pitch; Supplier 1: Mouser; Supplier Part Number 1: 726-SPW15N60C3; Supplier 2: Digi-Key; Supplier Part Number 2: SPW15N60C3IN-ND; Halogen-free: available; Packing: Tube; RthJC (max): 0.8 K/W; Technology: CoolMOS C3; Mounting Technology: Through Hole; ComponentLink1Description: Manufacturer URL; ComponentLink1URL: http://www.infineon.com/; ComponentLink2Description: Datasheet; ComponentLink2URL: http://www.infineon.com/dgdl/SPW15N60C3_Rev%5B1%5D.2.5_PCN.pdf?folderId=db3a304412b407950112b408e8c90004&fileId=db3a304412b407950112b42de9484914; ComponentLink3Description: Package Specification; ComponentLink3URL: http://www.infineon.com/cms/packages/Leaded_and_through-hole/P-PG-TO247/P-PG-TO247-3-44.html?__locale=en
footprint INF-PG-TO247-3-44 (FM, 3-Leads, Body 5.02x15.94mm, Pitch 5.44mm)
pins: 1 GATE, 2 DRAIN, 3 SOURCE

## SPW15N60CFD
designator Q?
N-Channel CoolMOS Power-Transistor, 600 V VDS, 13.4 A ID, -55 to 150 degC, PG-TO247-3-44, Tube, Green; Manufacturer: Infineon; PartNumber: SPW15N60CFD; Green: TRUE; ID (max): 13.4 A; IDpuls (max): 33 A; Polarity: N; Ptot (max): 156 W; QG: 63 nC; RDS (on) (max): 330 mOhm; Rth: 0.8 K/W; RthJA (max): 62 K/W; VDS (max): 600 V; VGS(th) (max): 5 V; VGS(th) (min): 3 V; DatasheetVersion: Rev. 1.2; PackageVersion: Rev. 03; PackageReference: PG-TO247-3-44; PackageDescription: 3-Pin Plastic (Green) Transistor Single Outline Package, 15.94 x 20.95 mm Body, 5.44 mm Pitch; Supplier 1: Mouser; Supplier Part Number 1: 726-SPW15N60CFD; Supplier 2: Digi-Key; Supplier Part Number 2: SPW15N60CFD-ND; Halogen-free: available; Packing: Tube; RthJC (max): 0.8 K/W; Technology: CoolMOS CFD; Mounting Technology: Through Hole; ComponentLink1Description: Manufacturer URL; ComponentLink1URL: http://www.infineon.com/; ComponentLink2Description: Datasheet; ComponentLink2URL: http://www.infineon.com/dgdl/SPW15N60CFD_rev1%5B1%5D.2_PCN.pdf?folderId=db3a3043156fd5730115c736bcc70ff2&fileId=db3a30431936bc4b01195b5b2944324b; ComponentLink3Description: Package Specification; ComponentLink3URL: http://www.infineon.com/cms/packages/Leaded_and_through-hole/P-PG-TO247/P-PG-TO247-3-44.html?__locale=en
footprint INF-PG-TO247-3-44 (FM, 3-Leads, Body 5.02x15.94mm, Pitch 5.44mm)
pins: 1 GATE, 2 DRAIN, 3 SOURCE

## SPW16N50C3
designator Q?
N-Channel CoolMOS Power-Transistor, 500 V VDS, 16 A ID, -55 to 150 degC, PG-TO247-3-44, Tube, Green; Manufacturer: Infineon; PartNumber: SPW16N50C3; Green: TRUE; ID (max): 16 A; IDpuls (max): 48 A; Polarity: N; Ptot (max): 160 W; QG: 66 nC; RDS (on) (max): 280 mOhm; Rth: 0.78 K/W; RthJA (max): 62 K/W; VDS (max): 500 V; VGS(th) (max): 3.9 V; VGS(th) (min): 2.1 V; DatasheetVersion: Rev. 2.5; PackageVersion: Rev. 03; PackageReference: PG-TO247-3-44; PackageDescription: 3-Pin Plastic (Green) Transistor Single Outline Package, 15.94 x 20.95 mm Body, 5.44 mm Pitch; Supplier 1: Mouser; Supplier Part Number 1: 726-SPW16N50C3; Supplier 2: Newark; Supplier Part Number 2: 33P8231; Supplier 3: Farnell; Supplier Part Number 3: 1664136; Supplier 4: Digi-Key; Supplier Part Number 4: SPW16N50C3IN-ND; Halogen-free: available; Packing: Tube; RthJC (max): 0.78 K/W; Technology: CoolMOS C3; Mounting Technology: Through Hole; ComponentLink1Description: Manufacturer URL; ComponentLink1URL: http://www.infineon.com/; ComponentLink2Description: Datasheet; ComponentLink2URL: http://www.infineon.com/dgdl/SPW16N50C3_Rev2%5B1%5D.5_PCN.pdf?folderId=db3a304412b407950112b408e8c90004&fileId=db3a304412b407950112b42d2eca4824; ComponentLink3Description: Package Specification; ComponentLink3URL: http://www.infineon.com/cms/packages/Leaded_and_through-hole/P-PG-TO247/P-PG-TO247-3-44.html?__locale=en
footprint INF-PG-TO247-3-44 (FM, 3-Leads, Body 5.02x15.94mm, Pitch 5.44mm)
pins: 1 GATE, 2 DRAIN, 3 SOURCE

## SPW17N80C3
designator Q?
N-Channel CoolMOS Power-Transistor, 800 V VDS, 17 A ID, -55 to 150 degC, PG-TO247-3-21, Tube, Green; Manufacturer: Infineon; PartNumber: SPW17N80C3; Green: TRUE; ID (max): 17 A; IDpuls (max): 51 A; Polarity: N; Ptot (max): 227 W; QG: 88 nC; RDS (on) (max): 290 mOhm; Rth: 0.6 K/W; RthJA (max): 62 K/W; RthJC (max): 0.55 K/W; VDS (max): 800 V; VGS(th) (max): 3.9 V; VGS(th) (min): 2.1 V; DatasheetVersion: Rev. 2.91; PackageVersion: Oct-07; PackageReference: PG-TO247-3-21; PackageDescription: 3-Pin Plastic (Green) Transistor Single Outline Package, 15.87 x 20.96 mm Body, 5.44 mm Pitch; Supplier 1: Mouser; Supplier Part Number 1: 726-SPW17N80C3; Supplier 2: Newark; Supplier Part Number 2: 98K0737; Supplier 3: Farnell; Supplier Part Number 3: 1095704; Supplier 4: Digi-Key; Supplier Part Number 4: SPW17N80C3IN-ND; Packing: Tube; Technology: CoolMOS C3; Mounting Technology: Through Hole; ComponentLink1Description: Manufacturer URL; ComponentLink1URL: http://www.infineon.com/; ComponentLink2Description: Datasheet; ComponentLink2URL: http://www.infineon.com/dgdl/SPW17N80C3_rev2.91.pdf?folderId=db3a3043163797a6011638491238009b&fileId=db3a3043163797a60116386103a5010d; ComponentLink3Description: Package Specification; ComponentLink3URL: http://www.infineon.com/dgdl/DS_IK30N100T_1_1.pdf?folderId=db3a304412b407950112b408e8c90004&fileId=db3a304316f66ee80116f7b6e3920050&location=en.Products.IGBTs.IGBT_with_Anti-Parallel_Diode.TRENCHSTOP__IGBT_for_Hard_Switching.DATASHEET.DS_IK30N100T_1_1.pdf
footprint INF-PG-TO247-3-21 (FM, 3-Leads, Body 5.03x15.87mm, Pitch 5.44mm)
pins: 1 GATE, 2 DRAIN, 3 SOURCE

## SPW20N60C3
designator Q?
N-Channel CoolMOS Power-Transistor, 600 V VDS, 20.7 A ID, -55 to 150 degC, PG-TO247-3-44, Tube, Green; Manufacturer: Infineon; PartNumber: SPW20N60C3; Green: TRUE; ID (max): 20.7 A; IDpuls (max): 62.1 A; Polarity: N; Ptot (max): 208 W; QG: 87 nC; RDS (on) (max): 190 mOhm; Rth: 0.6 K/W; RthJA (max): 62 K/W; VDS (max): 600 V; VGS(th) (max): 3.9 V; VGS(th) (min): 2.1 V; DatasheetVersion: Rev. 2.5; PackageVersion: Rev. 03; PackageReference: PG-TO247-3-44; PackageDescription: 3-Pin Plastic (Green) Transistor Single Outline Package, 15.94 x 20.95 mm Body, 5.44 mm Pitch; Supplier 1: Mouser; Supplier Part Number 1: 726-SPW20N60C3; Supplier 2: Newark; Supplier Part Number 2: 98K0739; Supplier 3: Farnell; Supplier Part Number 3: 1056555; Supplier 4: Digi-Key; Supplier Part Number 4: SPW20N60C3IN-ND; Halogen-free: available; Packing: Tube; RthJC (max): 0.6 K/W; Technology: CoolMOS C3; Mounting Technology: Through Hole; ComponentLink1Description: Manufacturer URL; ComponentLink1URL: http://www.infineon.com/; ComponentLink2Description: Datasheet; ComponentLink2URL: http://www.infineon.com/dgdl/SPW20N60C3_Rev.2.5_PCN_.pdf?folderId=db3a304412b407950112b408e8c90004&fileId=db3a304412b407950112b42e3702497f; ComponentLink3Description: Package Specification; ComponentLink3URL: http://www.infineon.com/cms/packages/Leaded_and_through-hole/P-PG-TO247/P-PG-TO247-3-44.html?__locale=en
footprint INF-PG-TO247-3-44 (FM, 3-Leads, Body 5.02x15.94mm, Pitch 5.44mm)
pins: 1 GATE, 2 DRAIN, 3 SOURCE

## SPW20N60CFD
designator Q?
N-Channel CoolMOS Power-Transistor, 600 V VDS, 20.7 A ID, -55 to 150 degC, PG-TO247-3-44, Tube, Green; Manufacturer: Infineon; PartNumber: SPW20N60CFD; Green: TRUE; ID (max): 20.7 A; IDpuls (max): 52 A; Polarity: N; Ptot (max): 208 W; QG: 95 nC; RDS (on) (max): 220 mOhm; Rth: 0.6 K/W; RthJA (max): 62 K/W; VDS (max): 600 V; VGS(th) (max): 5 V; VGS(th) (min): 3 V; DatasheetVersion: Rev. 2.5; PackageVersion: Rev. 03; PackageReference: PG-TO247-3-44; PackageDescription: 3-Pin Plastic (Green) Transistor Single Outline Package, 15.94 x 20.95 mm Body, 5.44 mm Pitch; Supplier 1: Mouser; Supplier Part Number 1: 726-SPW20N60CFD; Supplier 2: Newark; Supplier Part Number 2: 98K0738; Supplier 3: Farnell; Supplier Part Number 3: 1095706; Supplier 4: Digi-Key; Supplier Part Number 4: SPW20N60CFDIN-ND; Halogen-free: available; Packing: Tube; RthJC (max): 0.6 K/W; Technology: CoolMOS CFD; Mounting Technology: Through Hole; ComponentLink1Description: Manufacturer URL; ComponentLink1URL: http://www.infineon.com/; ComponentLink2Description: Datasheet; ComponentLink2URL: http://www.infineon.com/dgdl/SPW20N60CFD_Rev%5B1%5D.2.5_PCN.pdf?folderId=db3a304412b407950112b408e8c90004&fileId=db3a304412b407950112b42c02c5464d; ComponentLink3Description: Package Specification; ComponentLink3URL: http://www.infineon.com/cms/packages/Leaded_and_through-hole/P-PG-TO247/P-PG-TO247-3-44.html?__locale=en
footprint INF-PG-TO247-3-44 (FM, 3-Leads, Body 5.02x15.94mm, Pitch 5.44mm)
pins: 1 GATE, 2 DRAIN, 3 SOURCE

## SPW20N60S5
designator Q?
N-Channel CoolMOS Power-Transistor, 600 V VDS, 20 A ID, -55 to 150 degC, PG-TO247-3-44, Tube, Green; Manufacturer: Infineon; PartNumber: SPW20N60S5; Green: TRUE; ID (max): 20 A; IDpuls (max): 40 A; Polarity: N; Ptot (max): 208 W; QG: 79 nC; RDS (on) (max): 190 mOhm; Rth: 0.6 K/W; RthJA (max): 50 K/W; VDS (max): 600 V; VGS(th) (max): 5.5 V; VGS(th) (min): 3.5 V; DatasheetVersion: Rev. 2.5; PackageVersion: Rev. 03; PackageReference: PG-TO247-3-44; PackageDescription: 3-Pin Plastic (Green) Transistor Single Outline Package, 15.94 x 20.95 mm Body, 5.44 mm Pitch; Supplier 1: Mouser; Supplier Part Number 1: 726-SPW20N60S5; Supplier 2: Newark; Supplier Part Number 2: 98K0740; Supplier 3: Farnell; Supplier Part Number 3: 1056556; Supplier 4: Digi-Key; Supplier Part Number 4: SPW20N60S5IN-ND; Halogen-free: available; Packing: Tube; RthJC (max): 0.6 K/W; Technology: CoolMOS S5; Mounting Technology: Through Hole; ComponentLink1Description: Manufacturer URL; ComponentLink1URL: http://www.infineon.com/; ComponentLink2Description: Datasheet; ComponentLink2URL: http://www.infineon.com/dgdl/SPW20N60S5_Rev%5B1%5D.2.5_PCN.pdf?folderId=db3a304412b407950112b408e8c90004&fileId=db3a304412b407950112b42c879f471b; ComponentLink3Description: Package Specification; ComponentLink3URL: http://www.infineon.com/cms/packages/Leaded_and_through-hole/P-PG-TO247/P-PG-TO247-3-44.html?__locale=en
footprint INF-PG-TO247-3-44 (FM, 3-Leads, Body 5.02x15.94mm, Pitch 5.44mm)
pins: 1 GATE, 2 DRAIN, 3 SOURCE

## SPW21N50C3
designator Q?
N-Channel CoolMOS Power-Transistor, 500 V VDS, 21 A ID, -55 to 150 degC, PG-TO247-3-44, Tube, Green; Manufacturer: Infineon; PartNumber: SPW21N50C3; Green: TRUE; ID (max): 21 A; IDpuls (max): 63 A; Polarity: N; Ptot (max): 208 W; QG: 95 nC; RDS (on) (max): 190 mOhm; Rth: 0.6 K/W; RthJA (max): 62 K/W; VDS (max): 500 V; VGS(th) (max): 3.9 V; VGS(th) (min): 2.1 V; DatasheetVersion: Rev. 2.5; PackageVersion: Rev. 03; PackageReference: PG-TO247-3-44; PackageDescription: 3-Pin Plastic (Green) Transistor Single Outline Package, 15.94 x 20.95 mm Body, 5.44 mm Pitch; Supplier 1: Mouser; Supplier Part Number 1: 726-SPW21N50C3; Supplier 2: Newark; Supplier Part Number 2: 62M0165; Supplier 3: Farnell; Supplier Part Number 3: 1471815; Supplier 4: Digi-Key; Supplier Part Number 4: SPW21N50C3IN-ND; Halogen-free: available; Packing: Tube; RthJC (max): 0.6 K/W; Technology: CoolMOS C3; Mounting Technology: Through Hole; ComponentLink1Description: Manufacturer URL; ComponentLink1URL: http://www.infineon.com/; ComponentLink2Description: Datasheet; ComponentLink2URL: http://www.infineon.com/dgdl/SPW21N50C3_Rev%5B1%5D.2.5_PCN.pdf?folderId=db3a304412b407950112b408e8c90004&fileId=db3a304412b407950112b42cf60a47dc; ComponentLink3Description: Package Specification; ComponentLink3URL: http://www.infineon.com/cms/packages/Leaded_and_through-hole/P-PG-TO247/P-PG-TO247-3-44.html?__locale=en
footprint INF-PG-TO247-3-44 (FM, 3-Leads, Body 5.02x15.94mm, Pitch 5.44mm)
pins: 1 GATE, 2 DRAIN, 3 SOURCE